# EAGLE library part PIC16F1827-I_P (library PIC16F1827-I_P)
MCU 7 KB Flash with 32 MHz Osc, 16 I/0 Microchip PIC16F1827-I/P, 8bit PIC Microcontroller, 32MHz, 4K x 14 words, 256 B Flash, 18-Pin PDIP Source: Datasheet <http://ww1.microchip.com/downloads/en/DeviceDoc/41391D.pdf>
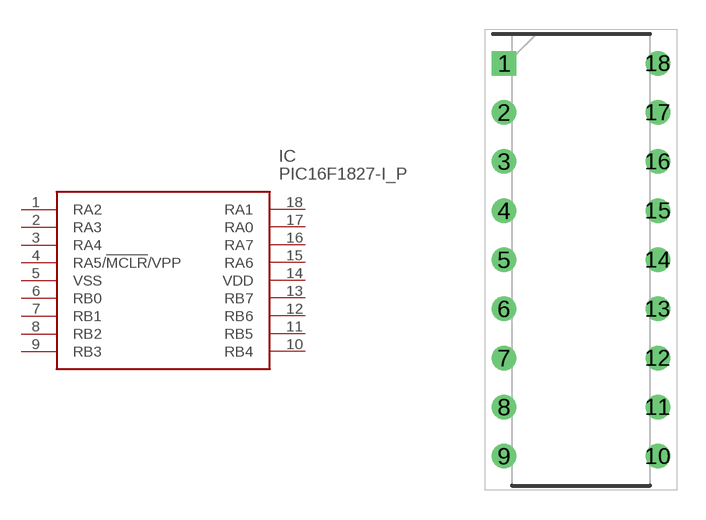
[diagram p0: symbol with the pads of DIP794W56P254L2286H533Q18N; footprint DIP794W56P254L2286H533Q18N]

Designator prefix IC

## PIC16F1827-I_P (Allied_Number: 70047956; Allied_Price-Stock: https://www.alliedelec.com/microchip-technology-inc-pic16f1827-i-p/70047956/; Description: MCU 7 KB Flash with 32 MHz Osc, 16 I/0 Microchip PIC16F1827-I/P, 8bit PIC Microcontroller, 32MHz, 4K x 14 words, 256 B Flash, 18-Pin PDIP; Height: 5.334mm; Manufacturer_Name: Microchip; Manufacturer_Part_Number: PIC16F1827-I/P; Mouser_Part_Number: 579-PIC16F1827-I/P; Mouser_Price-Stock: https://www.mouser.com/Search/Refine.aspx?Keyword=579-PIC16F1827-I%2FP; RS_Part_Number: 6988959P; RS_Price-Stock: http://uk.rs-online.com/web/p/products/6988959P)  [DIP794W56P254L2286H533Q18N]
1  RA2
2  RA3
3  RA4
4  RA5/!MCLR!/VPP
5  VSS
6  RB0
7  RB1
8  RB2
9  RB3
10  RB4
11  RB5
12  RB6
13  RB7
14  VDD
15  RA6
16  RA7
17  RA0
18  RA1

## Footprint DIP794W56P254L2286H533Q18N (pad centres in mm)
18-Lead Plastic Dual In-Line (P) - 300 mil Body [PDIP]
drill 0.759 pad 1.159 square: 1 -3.969,10.16
drill 0.759 pad 1.159: 2 -3.969,7.62; 3 -3.969,5.08; 4 -3.969,2.54; 5 -3.969,0; 6 -3.969,-2.54; 7 -3.969,-5.08; 8 -3.969,-7.62; 9 -3.969,-10.16; 10 3.969,-10.16; 11 3.969,-7.62; 12 3.969,-5.08; 13 3.969,-2.54; 14 3.969,0; 15 3.969,2.54; 16 3.969,5.08; 17 3.969,7.62; 18 3.969,10.16